# EAGLE library part DIMM-SOCKET-184 (library xess)
DDR SDRAM 184-pin DIMM Socket
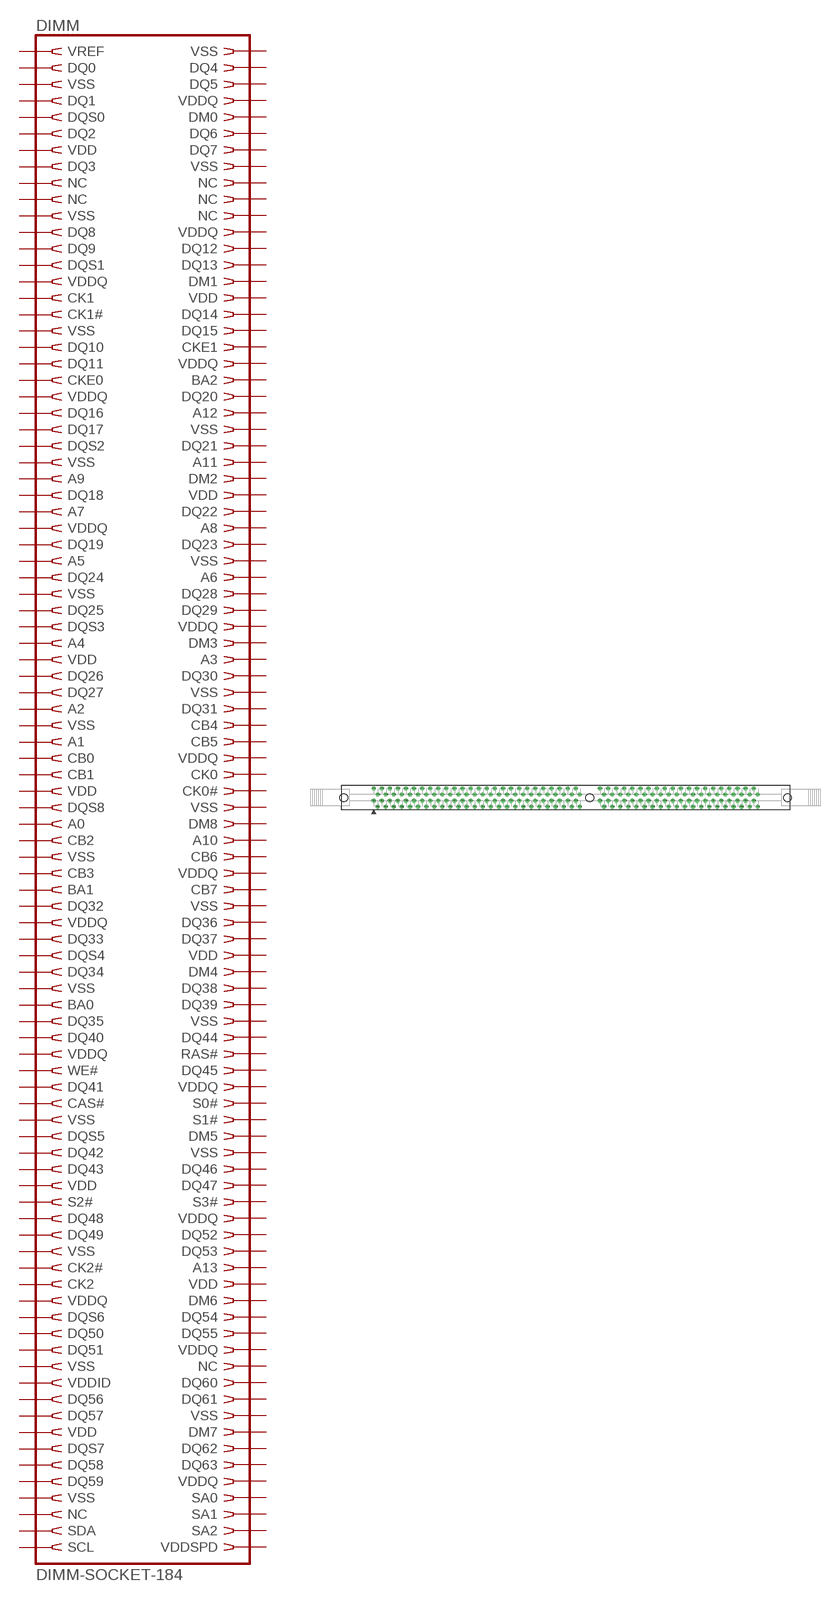
[diagram p52: symbol with the pads of DIMM-SOCKET-184; footprint DIMM-SOCKET-184]

Designator prefix DIMM

## DIMM-SOCKET-184  [DIMM-SOCKET-184]
P$1  VREF  pas
P$2  DQ0
P$3  VSS  pas
P$4  DQ1
P$5  DQS0
P$6  DQ2
P$7  VDD  pas
P$8  DQ3
P$9  NC  pas
P$10  NC  pas
P$11  VSS  pas
P$12  DQ8
P$13  DQ9
P$14  DQS1
P$15  VDDQ  pas
P$16  CK1  in
P$17  CK1#  in
P$18  VSS  pas
P$19  DQ10
P$20  DQ11
P$21  CKE0  in
P$22  VDDQ  pas
P$23  DQ16
P$24  DQ17
P$25  DQS2
P$26  VSS  pas
P$27  A9  in
P$28  DQ18
P$29  A7  in
P$30  VDDQ  pas
P$31  DQ19
P$32  A5  in
P$33  DQ24
P$34  VSS  pas
P$35  DQ25
P$36  DQS3
P$37  A4  in
P$38  VDD  pas
P$39  DQ26
P$40  DQ27
P$41  A2  in
P$42  VSS  pas
P$43  A1  in
P$44  CB0
P$45  CB1
P$46  VDD  pas
P$47  DQS8
P$48  A0  in
P$49  CB2
P$50  VSS  pas
P$51  CB3
P$52  BA1  in
P$53  DQ32
P$54  VDDQ  pas
P$55  DQ33
P$56  DQS4
P$57  DQ34
P$58  VSS  pas
P$59  BA0  in
P$60  DQ35
P$61  DQ40
P$62  VDDQ  pas
P$63  WE#  in
P$64  DQ41
P$65  CAS#  in
P$66  VSS  pas
P$67  DQS5
P$68  DQ42
P$69  DQ43
P$70  VDD  pas
P$71  S2#  in
P$72  DQ48
P$73  DQ49
P$74  VSS  pas
P$75  CK2#  in
P$76  CK2  in
P$77  VDDQ  pas
P$78  DQS6
P$79  DQ50
P$80  DQ51
P$81  VSS  pas
P$82  VDDID  pas
P$83  DQ56
P$84  DQ57
P$85  VDD  pas
P$86  DQS7
P$87  DQ58
P$88  DQ59
P$89  VSS  pas
P$90  NC  pas
P$91  SDA
P$92  SCL  in
P$93  VSS  pas
P$94  DQ4
P$95  DQ5
P$96  VDDQ  pas
P$97  DM0  in
P$98  DQ6
P$99  DQ7
P$100  VSS  pas
P$101  NC  pas
P$102  NC  pas
P$103  NC  pas
P$104  VDDQ  pas
P$105  DQ12
P$106  DQ13
P$107  DM1  in
P$108  VDD  pas
P$109  DQ14
P$110  DQ15
P$111  CKE1  in
P$112  VDDQ  pas
P$113  BA2  in
P$114  DQ20
P$115  A12  in
P$116  VSS  pas
P$117  DQ21
P$118  A11  in
P$119  DM2  in
P$120  VDD  pas
P$121  DQ22
P$122  A8  in
P$123  DQ23
P$124  VSS  pas
P$125  A6  in
P$126  DQ28
P$127  DQ29
P$128  VDDQ  pas
P$129  DM3  in
P$130  A3  in
P$131  DQ30
P$132  VSS  pas
P$133  DQ31
P$134  CB4
P$135  CB5
P$136  VDDQ  pas
P$137  CK0  in
P$138  CK0#  in
P$139  VSS  pas
P$140  DM8  in
P$141  A10  in
P$142  CB6
P$143  VDDQ  pas
P$144  CB7
P$145  VSS  pas
P$146  DQ36
P$147  DQ37
P$148  VDD  pas
P$149  DM4  in
P$150  DQ38
P$151  DQ39
P$152  VSS  pas
P$153  DQ44
P$154  RAS#  in
P$155  DQ45
P$156  VDDQ  pas
P$157  S0#  in
P$158  S1#  in
P$159  DM5  in
P$160  VSS  pas
P$161  DQ46
P$162  DQ47
P$163  S3#  in
P$164  VDDQ  pas
P$165  DQ52
P$166  DQ53
P$167  A13  in
P$168  VDD  pas
P$169  DM6  in
P$170  DQ54
P$171  DQ55
P$172  VDDQ  pas
P$173  NC  pas
P$174  DQ60
P$175  DQ61
P$176  VSS  pas
P$177  DM7  in
P$178  DQ62
P$179  DQ63
P$180  VDDQ  pas
P$181  SA0  in
P$182  SA1  in
P$183  SA2  in
P$184  VDDSPD  pas

## Footprint DIMM-SOCKET-184 (pad centres in mm)
drill 0.8 pad 1.27 round: P$1 9.41,-0.96; P$2 10.68,-2.86; P$3 11.95,-0.96; P$4 13.22,-2.86; P$5 14.49,-0.96; P$6 15.76,-2.86; P$7 17.03,-0.96; P$8 18.3,-2.86; P$9 19.57,-0.96; P$10 20.84,-2.86; P$11 22.11,-0.96; P$12 23.38,-2.86; P$13 24.65,-0.96; P$14 25.92,-2.86; P$15 27.19,-0.96; P$16 28.46,-2.86; P$17 29.73,-0.96; P$18 31,-2.86; P$19 32.27,-0.96; P$20 33.54,-2.86; P$21 34.81,-0.96; P$22 36.08,-2.86; P$23 37.35,-0.96; P$24 38.62,-2.86; P$25 39.89,-0.96; P$26 41.16,-2.86; P$27 42.43,-0.96; P$28 43.7,-2.86; P$29 44.97,-0.96; P$30 46.24,-2.86; P$31 47.51,-0.96; P$32 48.78,-2.86; P$33 50.05,-0.96; P$34 51.32,-2.86; P$35 52.59,-0.96; P$36 53.86,-2.86; P$37 55.13,-0.96; P$38 56.4,-2.86; P$39 57.67,-0.96; P$40 58.94,-2.86; P$41 60.21,-0.96; P$42 61.48,-2.86; P$43 62.75,-0.96; P$44 64.02,-2.86; P$45 65.29,-0.96; P$46 66.56,-2.86; P$47 67.83,-0.96; P$48 69.1,-2.86; P$49 70.37,-0.96; P$50 71.64,-2.86; P$51 72.91,-0.96; P$52 74.18,-2.86; P$53 80.53,-0.96; P$54 81.8,-2.86; P$55 83.07,-0.96; P$56 84.34,-2.86; P$57 85.61,-0.96; P$58 86.88,-2.86; P$59 88.15,-0.96; P$60 89.42,-2.86; P$61 90.69,-0.96; P$62 91.96,-2.86; P$63 93.23,-0.96; P$64 94.5,-2.86; P$65 95.77,-0.96; P$66 97.04,-2.86; P$67 98.31,-0.96; P$68 99.58,-2.86; P$69 100.85,-0.96; P$70 102.12,-2.86; P$71 103.39,-0.96; P$72 104.66,-2.86; P$73 105.93,-0.96; P$74 107.2,-2.86; P$75 108.47,-0.96; P$76 109.74,-2.86; P$77 111.01,-0.96; P$78 112.28,-2.86; P$79 113.55,-0.96; P$80 114.82,-2.86; P$81 116.09,-0.96; P$82 117.36,-2.86; P$83 118.63,-0.96; P$84 119.9,-2.86; P$85 121.17,-0.96; P$86 122.44,-2.86; P$87 123.71,-0.96; P$88 124.98,-2.86; P$89 126.25,-0.96; P$90 127.52,-2.86; P$91 128.79,-0.96; P$92 130.06,-2.86; P$93 9.41,2.86; P$94 10.68,0.96; P$95 11.95,2.86; P$96 13.22,0.96; P$97 14.49,2.86; P$98 15.76,0.96; P$99 17.03,2.86; P$100 18.3,0.96; P$101 19.57,2.86; P$102 20.84,0.96; P$103 22.11,2.86; P$104 23.38,0.96; P$105 24.65,2.86; P$106 25.92,0.96; P$107 27.19,2.86; P$108 28.46,0.96; P$109 29.73,2.86; P$110 31,0.96; P$111 32.27,2.86; P$112 33.54,0.96; P$113 34.81,2.86; P$114 36.08,0.96; P$115 37.35,2.86; P$116 38.62,0.96; P$117 39.89,2.86; P$118 41.16,0.96; P$119 42.43,2.86; P$120 43.7,0.96; P$121 44.97,2.86; P$122 46.24,0.96; P$123 47.51,2.86; P$124 48.78,0.96; P$125 50.05,2.86; P$126 51.32,0.96; P$127 52.59,2.86; P$128 53.86,0.96; P$129 55.13,2.86; P$130 56.4,0.96; P$131 57.67,2.86; P$132 58.94,0.96; P$133 60.21,2.86; P$134 61.48,0.96; P$135 62.75,2.86; P$136 64.02,0.96; P$137 65.29,2.86; P$138 66.56,0.96; P$139 67.83,2.86; P$140 69.1,0.96; P$141 70.37,2.86; P$142 71.64,0.96; P$143 72.91,2.86; P$144 74.18,0.96; P$145 80.53,2.86; P$146 81.8,0.96; P$147 83.07,2.86; P$148 84.34,0.96; P$149 85.61,2.86; P$150 86.88,0.96; P$151 88.15,2.86; P$152 89.42,0.96; P$153 90.69,2.86; P$154 91.96,0.96; P$155 93.23,2.86; P$156 94.5,0.96; P$157 95.77,2.86; P$158 97.04,0.96; P$159 98.31,2.86; P$160 99.58,0.96; P$161 100.85,2.86; P$162 102.12,0.96; P$163 103.39,2.86; P$164 104.66,0.96; P$165 105.93,2.86; P$166 107.2,0.96; P$167 108.47,2.86; P$168 109.74,0.96; P$169 111.01,2.86; P$170 112.28,0.96; P$171 113.55,2.86; P$172 114.82,0.96; P$173 116.09,2.86; P$174 117.36,0.96; P$175 118.63,2.86; P$176 119.9,0.96; P$177 121.17,2.86; P$178 122.44,0.96; P$179 123.71,2.86; P$180 124.98,0.96; P$181 126.25,2.86; P$182 127.52,0.96; P$183 128.79,2.86; P$184 130.06,0.96
hole 2.44 at 0,0
hole 2.44 at 77.34,0
hole 2.44 at 139.46,0